# EAGLE library part PESD4USB5UTBS-QX (library PESD4USB5UTBS-QX)
PESD4USB5UTBS-Q - ESD protection for high-speed interfaces@en-us Source: Datasheet <https://assets.nexperia.com/documents/data-sheet/PESD4USB5UTBS-Q.pdf>
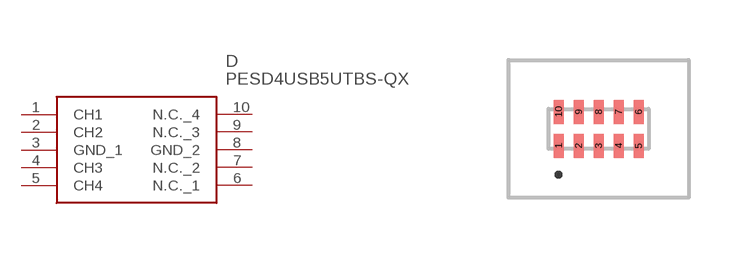
[diagram p0: symbol with the pads of PESD4USB5UTBSQX; footprint PESD4USB5UTBSQX]

Designator prefix D

## PESD4USB5UTBS-QX (Description: PESD4USB5UTBS-Q - ESD protection for high-speed interfaces@en-us; Height: 0.8mm; Manufacturer_Name: Nexperia; Manufacturer_Part_Number: PESD4USB5UTBS-QX; Mouser_Part_Number: 771-PESD4USB5UTBS-QX; Mouser_Price-Stock: https://www.mouser.co.uk/ProductDetail/Nexperia/PESD4USB5UTBS-QX?qs=3Rah4i%252BhyCF%2FA1UwCqjauQ%3D%3D)  [PESD4USB5UTBSQX]
1  CH1
2  CH2
3  GND_1
4  CH3
5  CH4
6  N.C._1
7  N.C._2
8  GND_2
9  N.C._3
10  N.C._4

## Footprint PESD4USB5UTBSQX (pad centres in mm)
PESD4USB5UTBS-QX-2
smd 0.25 x 0.6: 1 -1,-0.425; 2 -0.5,-0.425; 3 0,-0.425; 4 0.5,-0.425; 5 1,-0.425; 6 1,0.425; 7 0.5,0.425; 8 0,0.425; 9 -0.5,0.425; 10 -1,0.425